# EAGLE library part V__VFD_1-518-977-21 (library ++Bedrahtet)
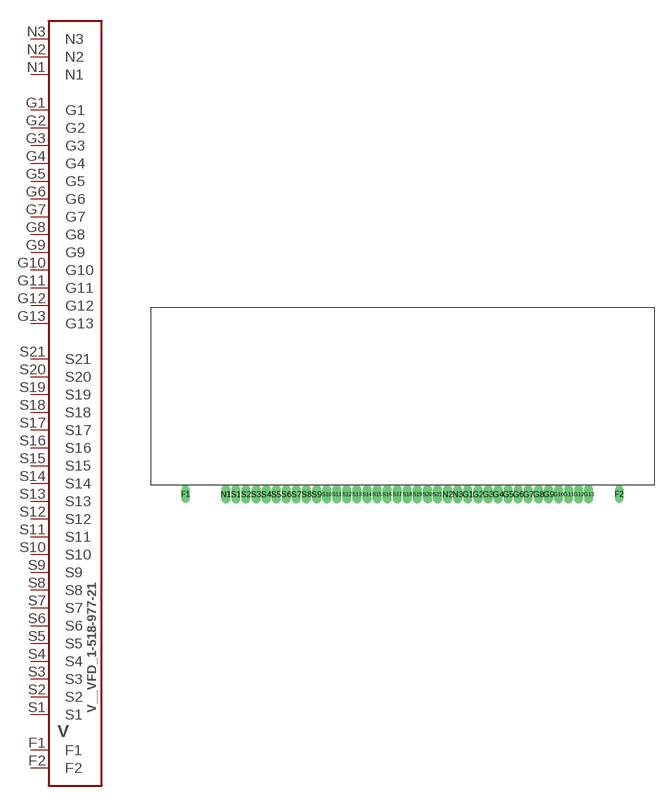
[diagram p64: symbol with the pads of VFD_1-518-977-21; footprint VFD_1-518-977-21]

Designator prefix V

## V__VFD_1-518-977-21  [VFD_1-518-977-21]
F1  F1
F2  F2
G1  G1
G2  G2
G3  G3
G4  G4
G5  G5
G6  G6
G7  G7
G8  G8
G9  G9
G10  G10
G11  G11
G12  G12
G13  G13
N1  N1
N2  N2
N3  N3
S1  S1
S2  S2
S3  S3
S4  S4
S5  S5
S6  S6
S7  S7
S8  S8
S9  S9
S10  S10
S11  S11
S12  S12
S13  S13
S14  S14
S15  S15
S16  S16
S17  S17
S18  S18
S19  S19
S20  S20
S21  S21

## Footprint VFD_1-518-977-21 (pad centres in mm)
drill 1 pad 1.7 long: F1 0,0; F2 86,0
drill 1 pad 1.8 long: G1 56,0; G2 58,0; G3 60,0; G4 62,0; G5 64,0; G6 66,0; G7 68,0; G8 70,0; G9 72,0; G10 74,0; G11 76,0; G12 78,0; G13 80,0; N1 8,0; N2 52,0; N3 54,0; S1 10,0; S2 12,0; S3 14,0; S4 16,0; S5 18,0; S6 20,0; S7 22,0; S8 24,0; S9 26,0; S10 28,0; S11 30,0; S12 32,0; S13 34,0; S14 36,0; S15 38,0; S16 40,0; S17 42,0; S18 44,0; S19 46,0; S20 48,0; S21 50,0